# EAGLE library part XM125 (library XM125)
Acconeer XM125 The XM125 features the A121 Radar sensor. This sensor detects distance, speed, and objects up to 20 meters away. The XM125 features a longer range, lower power consumption and better accuracy for usage of the A121. SparkFun Products: Radar Breakout (XM125) <insert>
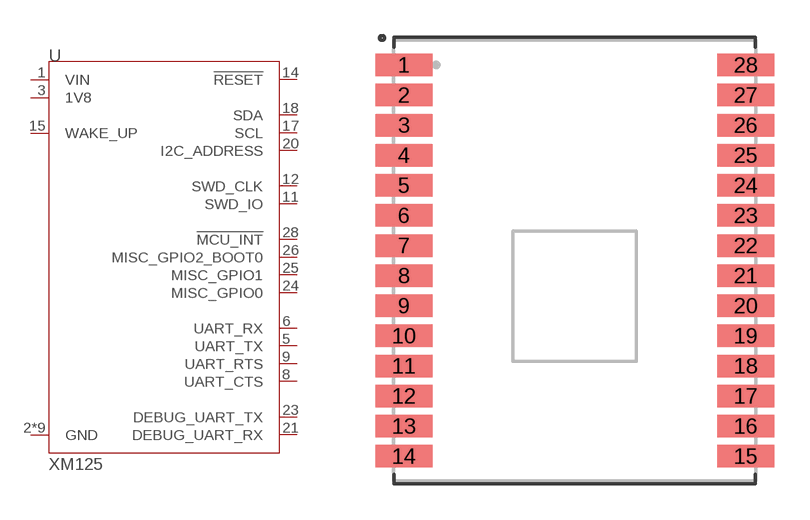
[diagram p0: symbol with the pads of XM125_ACC; footprint XM125_ACC]

Designator prefix U

## XM125 (PROD_ID: SEN-21014)  [XM125_ACC]
1  VIN  pwr
2  GND  pas
3  1V8  pwr
4  GND  pas
5  UART_TX  pas
6  UART_RX  pas
7  GND  pas
8  UART_CTS  pas
9  UART_RTS  pas
10  GND  pas
11  SWD_IO  pas
12  SWD_CLK  pas
13  GND  pas
14  !RESET  pas
15  WAKE_UP  pas
16  GND  pas
17  SCL  pas
18  SDA  pas
19  GND  pas
20  I2C_ADDRESS  pas
21  DEBUG_UART_RX  pas
22  GND  pas
23  DEBUG_UART_TX  pas
24  MISC_GPIO0
25  MISC_GPIO1
26  MISC_GPIO2_BOOT0
27  GND  pas
28  !MCU_INT  pas

## Footprint XM125_ACC (pad centres in mm)
smd 2.4 x 0.95: 1 -7.21,8.255; 2 -7.21,6.985; 3 -7.21,5.715; 4 -7.21,4.445; 5 -7.21,3.175; 6 -7.21,1.905; 7 -7.21,0.635; 8 -7.21,-0.635; 9 -7.21,-1.905; 10 -7.21,-3.175; 11 -7.21,-4.445; 12 -7.21,-5.715; 13 -7.21,-6.985; 14 -7.21,-8.255; 15 7.21,-8.255; 16 7.21,-6.985; 17 7.21,-5.715; 18 7.21,-4.445; 19 7.21,-3.175; 20 7.21,-1.905; 21 7.21,-0.635; 22 7.21,0.635; 23 7.21,1.905; 24 7.21,3.175; 25 7.21,4.445; 26 7.21,5.715; 27 7.21,6.985; 28 7.21,8.255